# Altium footprint library Resistors-potenciometers.PcbLib: 77 footprints (part 3 of 5)
Each footprint in its own frame and in the unit in brackets; x right, y up, seen from the top. Pads: shape width x height; smd on the part's side, far side on the other; paste and mask are expansions set on the pad; w line width, h text height; cw(c..) or ccw(c..) is an arc to the next point about the centre after c.
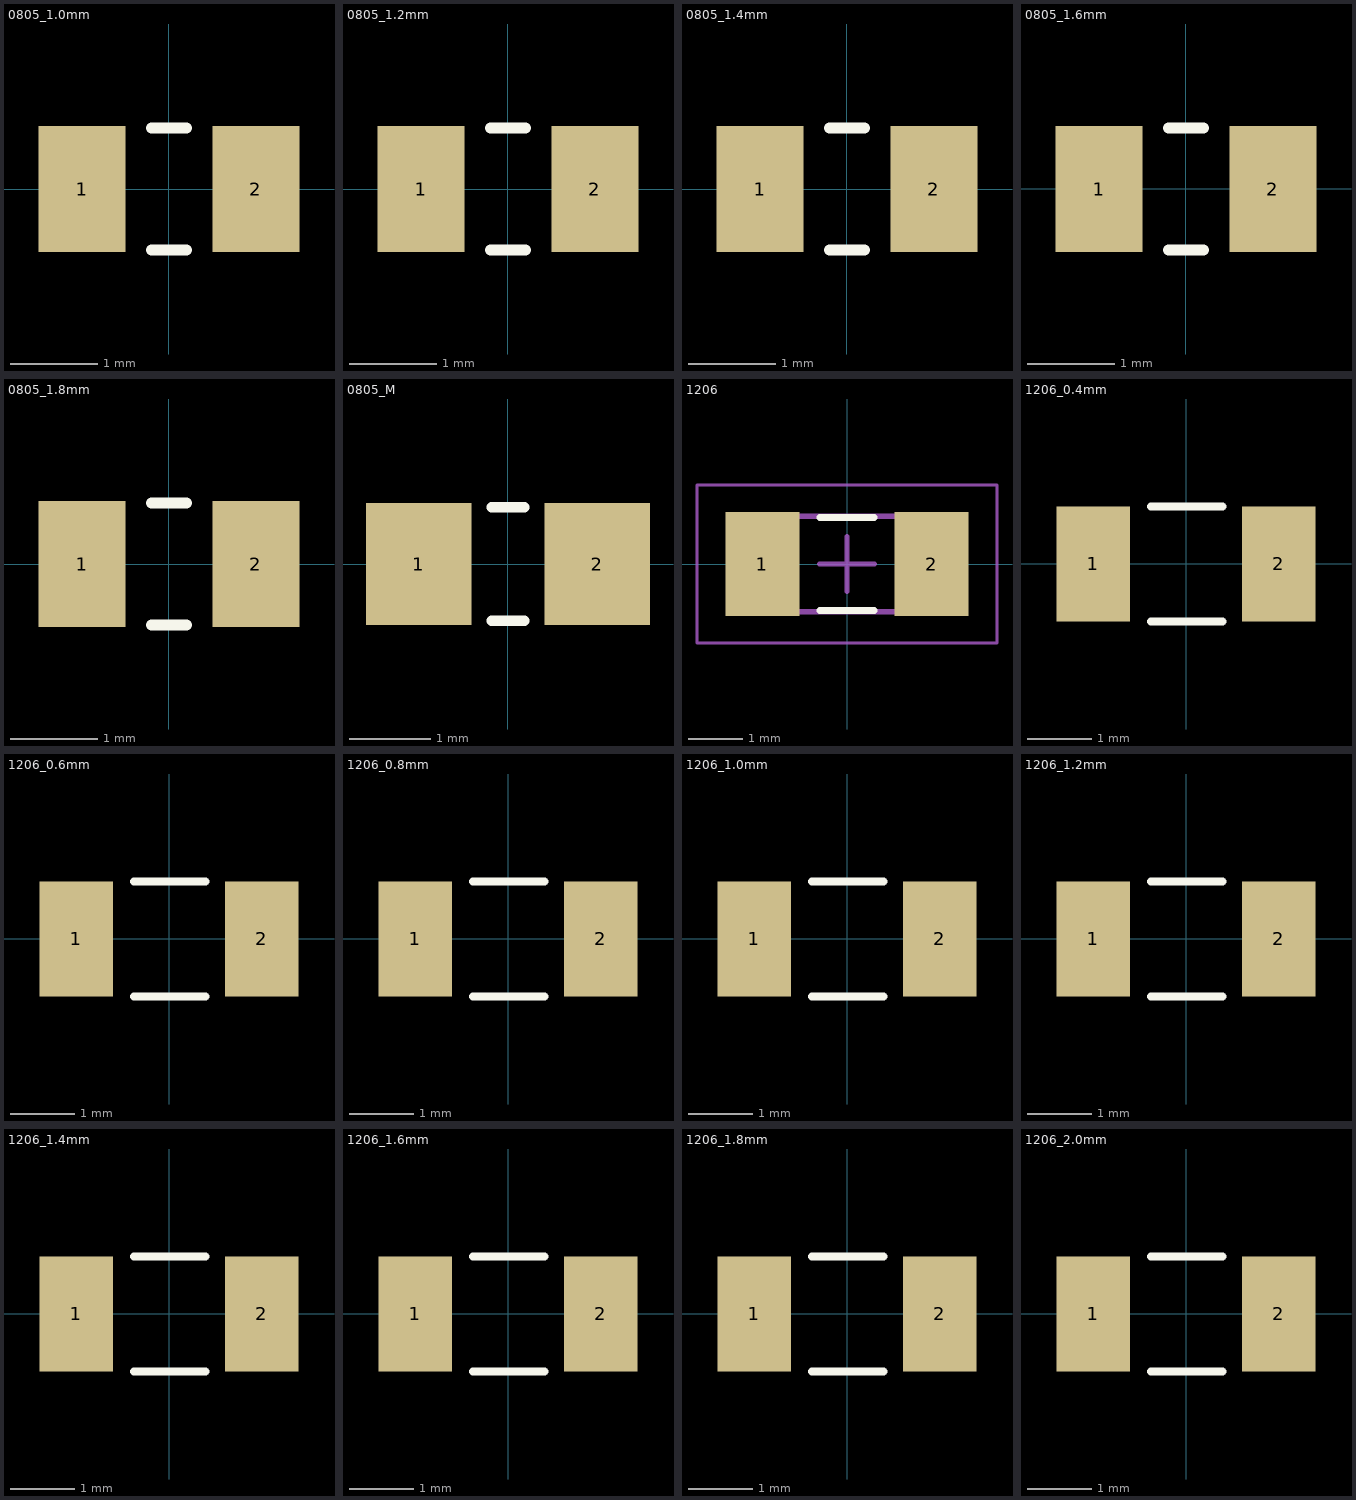
[diagram p2: the footprints below, top view; thin cyan lines are the x and y axes]

## 0805_1.0mm [mm] "2012 metric/20230306/ J-A.Sepulveda"
pads (2):
  rect 1x1.45 smd: 1(-1,0) 2(1,0)
Top Overlay:
  lines w0.127: -0.2,-0.7 0.2,-0.7 ; -0.2,0.7 0.2,0.7
3D body: height 1.1, standoff 0.1, extent -1,-0.65 -0.6,0.65
3D body: height 1.1, standoff 0.1, extent 0.6,-0.65 1,0.65
3D body: height 1.1, standoff 0.1, extent -0.6,-0.65 0.6,0.65

## 0805_1.2mm [mm] "2012 metric/20230306/ J-A.Sepulveda"
pads (2):
  rect 1x1.45 smd: 1(-1,0) 2(1,0)
Top Overlay:
  lines w0.127: -0.2,-0.7 0.2,-0.7 ; -0.2,0.7 0.2,0.7
3D body: height 1.3, standoff 0.1, extent -0.6,-0.65 0.6,0.65
3D body: height 1.3, standoff 0.1, extent 0.6,-0.65 1,0.65
3D body: height 1.3, standoff 0.1, extent -1,-0.65 -0.6,0.65

## 0805_1.4mm [mm] "2012 Metric/20230206/J-A.Sepulveda"
pads (2):
  rect 1x1.45 smd: 1(-1,0) 2(1,0)
Top Overlay:
  lines w0.127: -0.2,-0.7 0.2,-0.7 ; -0.2,0.7 0.2,0.7
3D body: height 1.5, standoff 0.1, extent -1.105,-0.724 1.105,0.724

## 0805_1.6mm [mm] "2012 Metric/20230206/J-A.Sepulveda"
pads (2):
  rect 1x1.45 smd: 1(-1,0) 2(1,0)
Top Overlay:
  lines w0.127: -0.2,-0.7 0.2,-0.7 ; -0.2,0.7 0.2,0.7
3D body: height 1.7, standoff 0.1, extent -1.105,-0.724 1.105,0.724

## 0805_1.8mm [mm] "2012 Metric/20230206/J-A.Sepulveda"
pads (2):
  rect 1x1.45 smd: 1(-1,0) 2(1,0)
Top Overlay:
  lines w0.127: -0.2,-0.7 0.2,-0.7 ; -0.2,0.7 0.2,0.7
3D body: height 1.9, standoff 0.1, extent -1.105,-0.724 1.105,0.724

## 0805_M [mm] "2012 Metric / 20200129/ V-A.Patino"
pads (2):
  rect 1.3x1.5 smd: 1(-1.1,0) 2(1.1,0)
Top Overlay:
  lines w0.127: -0.2,-0.7 0.2,-0.7 ; -0.2,0.7 0.2,0.7
3D body: height 1.3, standoff 0, extent -0.6,-0.725 0.6,0.725
3D body: height 1.3, standoff 0, extent 0.6,-0.725 1.1,0.725
3D body: height 1.3, standoff 0, extent -1.1,-0.725 -0.6,0.725

## 1206 [mm] "3216 metric/ 20190327/ V-A.Patino"
pads (2):
  rect 1.35x1.9 smd: 1(-1.55,0) 2(1.55,0)
Top Overlay:
  lines w0.127: -0.5,-0.85 0.5,-0.85 ; -0.5,0.85 0.5,0.85
Mechanical 1:
  lines w0.1: -1.675,-0.875 1.675,-0.875 1.675,0.875 -1.675,0.875 -1.675,-0.875
Mechanical 15:
  lines w0.05: -2.75,-1.45 2.75,-1.45 2.75,1.45 -2.75,1.45 -2.75,-1.45
  lines w0.1: -0.5,0 0.5,0 ; 0,-0.5 0,0.5
3D body: height 0.75, standoff 0, extent -1.674,-0.874 -1.18,0.875
3D body: height 0.75, standoff 0, extent -1.18,-0.874 1.181,0.875
3D body: height 0.75, standoff 0, extent 1.181,-0.874 1.675,0.875

## 1206_0.4mm [mm] "3216 metric/20230303/J-A.Sepulveda"
pads (2):
  rect 1.15x1.8 smd: 1(-1.45,0) 2(1.45,0)
Top Overlay:
  lines w0.127: -0.55,-0.9 0.57,-0.9 ; -0.55,0.9 0.57,0.9
3D body: height 0.5, standoff 0.1, extent 0.95,-0.762 1.498,0.762
3D body: height 0.5, standoff 0.1, extent -0.95,-0.762 0.95,0.762
3D body: height 0.5, standoff 0.1, extent -1.55,-0.762 -0.95,0.762

## 1206_0.6mm [mm] "3216 metric/20230303/J-A.Sepulveda"
pads (2):
  rect 1.15x1.8 smd: 1(-1.45,0) 2(1.45,0)
Top Overlay:
  lines w0.127: -0.55,-0.9 0.57,-0.9 ; -0.55,0.9 0.57,0.9
3D body: height 0.7, standoff 0.1, extent -1.55,-0.762 -0.95,0.762
3D body: height 0.7, standoff 0.1, extent -0.95,-0.762 0.95,0.762
3D body: height 0.7, standoff 0.1, extent 0.95,-0.762 1.498,0.762

## 1206_0.8mm [mm] "3216 metric/20230303/J-A.Sepulveda"
pads (2):
  rect 1.15x1.8 smd: 1(-1.45,0) 2(1.45,0)
Top Overlay:
  lines w0.127: -0.55,-0.9 0.57,-0.9 ; -0.55,0.9 0.57,0.9
3D body: height 0.9, standoff 0.1, extent 0.95,-0.762 1.498,0.762
3D body: height 0.9, standoff 0.1, extent -0.95,-0.762 0.95,0.762
3D body: height 0.9, standoff 0.1, extent -1.55,-0.762 -0.95,0.762

## 1206_1.0mm [mm] "3216 metric/20230303/J-A.Sepulveda"
pads (2):
  rect 1.15x1.8 smd: 1(-1.45,0) 2(1.45,0)
Top Overlay:
  lines w0.127: -0.55,-0.9 0.57,-0.9 ; -0.55,0.9 0.57,0.9
3D body: height 1.1, standoff 0.1, extent 0.95,-0.762 1.498,0.762
3D body: height 1.1, standoff 0.1, extent -0.95,-0.762 0.95,0.762
3D body: height 1.1, standoff 0.1, extent -1.55,-0.762 -0.95,0.762

## 1206_1.2mm [mm] "3216 metric/20230303/J-A.Sepulveda"
pads (2):
  rect 1.15x1.8 smd: 1(-1.45,0) 2(1.45,0)
Top Overlay:
  lines w0.127: -0.55,-0.9 0.57,-0.9 ; -0.55,0.9 0.57,0.9
3D body: height 1.3, standoff 0.1, extent 0.95,-0.762 1.498,0.762
3D body: height 1.3, standoff 0.1, extent -0.95,-0.762 0.95,0.762
3D body: height 1.3, standoff 0.1, extent -1.55,-0.762 -0.95,0.762

## 1206_1.4mm [mm] "3216 metric/20230303/J-A.Sepulveda"
pads (2):
  rect 1.15x1.8 smd: 1(-1.45,0) 2(1.45,0)
Top Overlay:
  lines w0.127: -0.55,-0.9 0.57,-0.9 ; -0.55,0.9 0.57,0.9
3D body: height 1.5, standoff 0.1, extent -1.55,-0.762 -0.95,0.762
3D body: height 1.5, standoff 0.1, extent -0.95,-0.762 0.95,0.762
3D body: height 1.5, standoff 0.1, extent 0.95,-0.762 1.498,0.762

## 1206_1.6mm [mm] "3216 Metric/20230206/J-A.Sepulveda"
pads (2):
  rect 1.15x1.8 smd: 1(-1.45,0) 2(1.45,0)
Top Overlay:
  lines w0.127: -0.55,-0.9 0.57,-0.9 ; -0.55,0.9 0.57,0.9
3D body: height 1.7, standoff 0.1, extent -1.6,-0.8 1.6,0.8

## 1206_1.8mm [mm] "3216 Metric/20230206/J-A.Sepulveda"
pads (2):
  rect 1.15x1.8 smd: 1(-1.45,0) 2(1.45,0)
Top Overlay:
  lines w0.127: -0.55,-0.9 0.57,-0.9 ; -0.55,0.9 0.57,0.9
3D body: height 1.9, standoff 0.1, extent -1.6,-0.8 1.6,0.8

## 1206_2.0mm [mm] "3216 Metric/20230206/J-A.Sepulveda"
pads (2):
  rect 1.15x1.8 smd: 1(-1.45,0) 2(1.45,0)
Top Overlay:
  lines w0.127: -0.55,-0.9 0.57,-0.9 ; -0.55,0.9 0.57,0.9
3D body: height 2.1, standoff 0.1, extent -1.6,-0.8 1.6,0.8